# Altium schematic symbol library RP2040_WEDS-cache.SchLib: 59 symbols
Pins are listed as number, name and electrical type; pins without a type are passive.

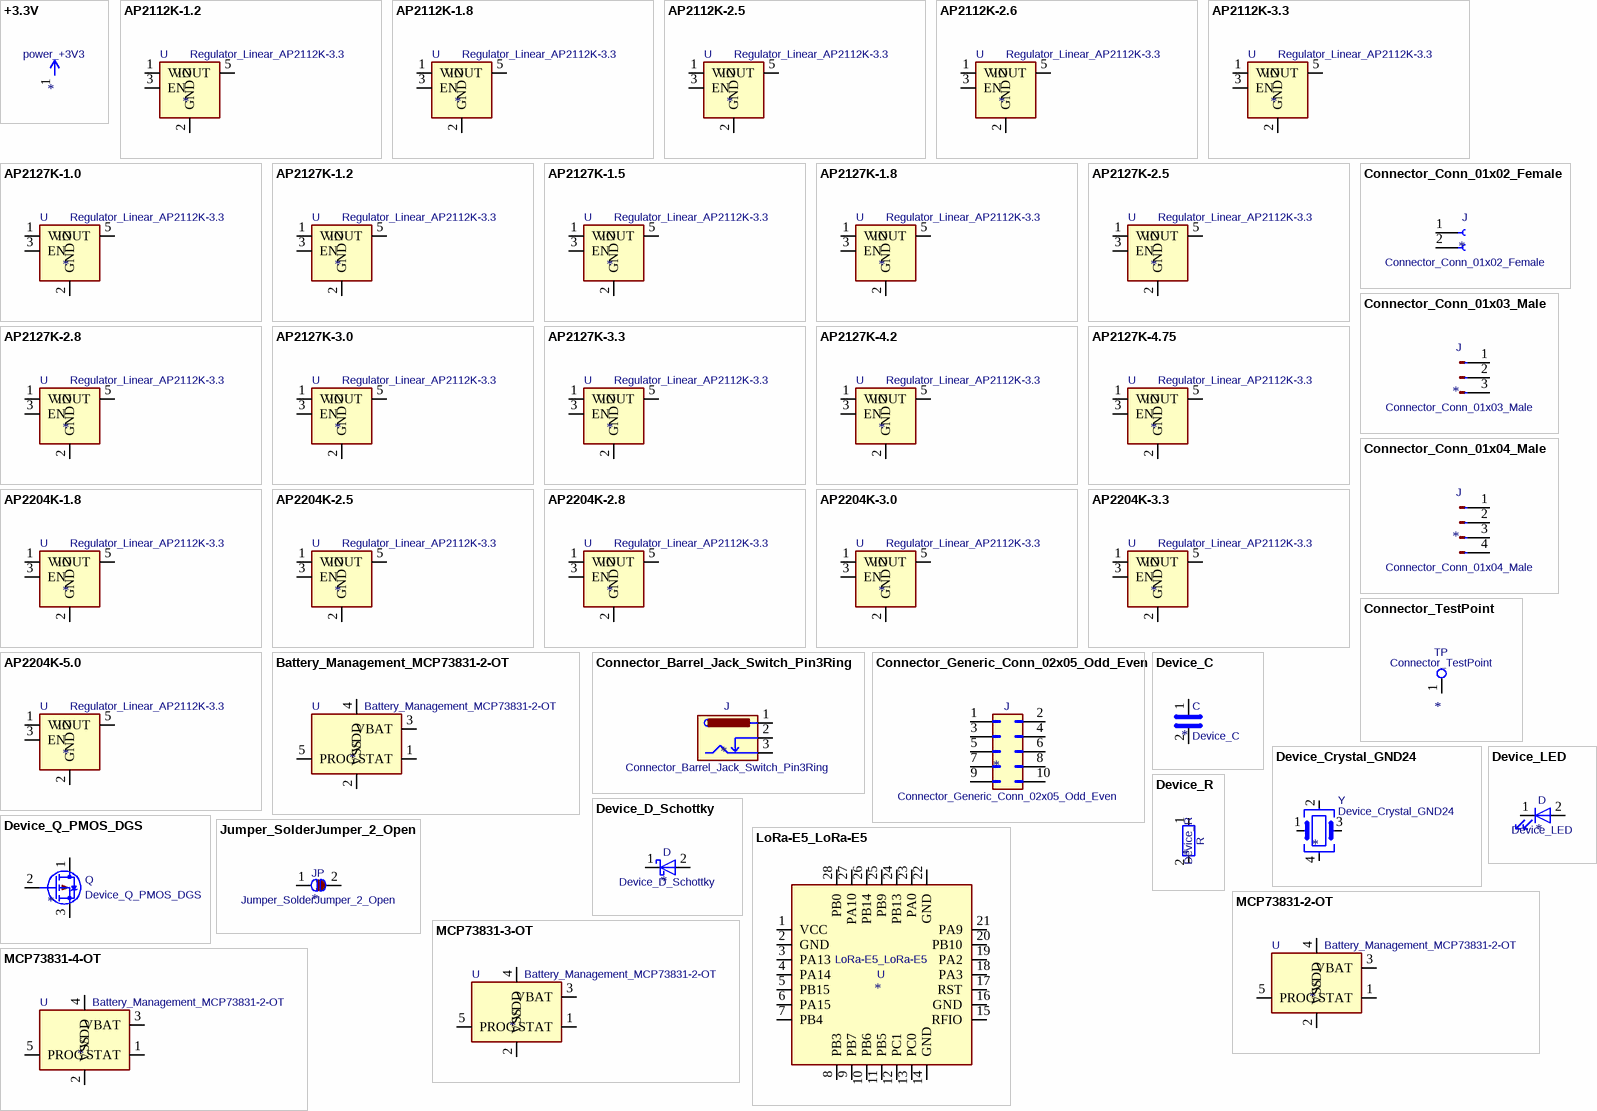
[diagram p0: symbols +3.3V to MCP73831-4-OT]

## +3.3V
designator #PWR  value power_+3V3
pins: 1 +3V3

## AP2112K-1.2
designator U  value Regulator_Linear_AP2112K-3.3
Footprint: Package_TO_SOT_SMD:SOT-23-5
footprint SOT-23-5
pins: 1 VIN, 2 GND, 3 EN, 4 NC hidden, 5 VOUT

## AP2112K-1.8
designator U  value Regulator_Linear_AP2112K-3.3
Footprint: Package_TO_SOT_SMD:SOT-23-5
footprint SOT-23-5
pins: 1 VIN, 2 GND, 3 EN, 4 NC hidden, 5 VOUT

## AP2112K-2.5
designator U  value Regulator_Linear_AP2112K-3.3
Footprint: Package_TO_SOT_SMD:SOT-23-5
footprint SOT-23-5
pins: 1 VIN, 2 GND, 3 EN, 4 NC hidden, 5 VOUT

## AP2112K-2.6
designator U  value Regulator_Linear_AP2112K-3.3
Footprint: Package_TO_SOT_SMD:SOT-23-5
footprint SOT-23-5
pins: 1 VIN, 2 GND, 3 EN, 4 NC hidden, 5 VOUT

## AP2112K-3.3
designator U  value Regulator_Linear_AP2112K-3.3
Footprint: Package_TO_SOT_SMD:SOT-23-5
footprint SOT-23-5
pins: 1 VIN, 2 GND, 3 EN, 4 NC hidden, 5 VOUT

## AP2127K-1.0
designator U  value Regulator_Linear_AP2112K-3.3
Footprint: Package_TO_SOT_SMD:SOT-23-5
footprint SOT-23-5
pins: 1 VIN, 2 GND, 3 EN, 4 NC hidden, 5 VOUT

## AP2127K-1.2
designator U  value Regulator_Linear_AP2112K-3.3
Footprint: Package_TO_SOT_SMD:SOT-23-5
footprint SOT-23-5
pins: 1 VIN, 2 GND, 3 EN, 4 NC hidden, 5 VOUT

## AP2127K-1.5
designator U  value Regulator_Linear_AP2112K-3.3
Footprint: Package_TO_SOT_SMD:SOT-23-5
footprint SOT-23-5
pins: 1 VIN, 2 GND, 3 EN, 4 NC hidden, 5 VOUT

## AP2127K-1.8
designator U  value Regulator_Linear_AP2112K-3.3
Footprint: Package_TO_SOT_SMD:SOT-23-5
footprint SOT-23-5
pins: 1 VIN, 2 GND, 3 EN, 4 NC hidden, 5 VOUT

## AP2127K-2.5
designator U  value Regulator_Linear_AP2112K-3.3
Footprint: Package_TO_SOT_SMD:SOT-23-5
footprint SOT-23-5
pins: 1 VIN, 2 GND, 3 EN, 4 NC hidden, 5 VOUT

## AP2127K-2.8
designator U  value Regulator_Linear_AP2112K-3.3
Footprint: Package_TO_SOT_SMD:SOT-23-5
footprint SOT-23-5
pins: 1 VIN, 2 GND, 3 EN, 4 NC hidden, 5 VOUT

## AP2127K-3.0
designator U  value Regulator_Linear_AP2112K-3.3
Footprint: Package_TO_SOT_SMD:SOT-23-5
footprint SOT-23-5
pins: 1 VIN, 2 GND, 3 EN, 4 NC hidden, 5 VOUT

## AP2127K-3.3
designator U  value Regulator_Linear_AP2112K-3.3
Footprint: Package_TO_SOT_SMD:SOT-23-5
footprint SOT-23-5
pins: 1 VIN, 2 GND, 3 EN, 4 NC hidden, 5 VOUT

## AP2127K-4.2
designator U  value Regulator_Linear_AP2112K-3.3
Footprint: Package_TO_SOT_SMD:SOT-23-5
footprint SOT-23-5
pins: 1 VIN, 2 GND, 3 EN, 4 NC hidden, 5 VOUT

## AP2127K-4.75
designator U  value Regulator_Linear_AP2112K-3.3
Footprint: Package_TO_SOT_SMD:SOT-23-5
footprint SOT-23-5
pins: 1 VIN, 2 GND, 3 EN, 4 NC hidden, 5 VOUT

## AP2204K-1.8
designator U  value Regulator_Linear_AP2112K-3.3
Footprint: Package_TO_SOT_SMD:SOT-23-5
footprint SOT-23-5
pins: 1 VIN, 2 GND, 3 EN, 4 NC hidden, 5 VOUT

## AP2204K-2.5
designator U  value Regulator_Linear_AP2112K-3.3
Footprint: Package_TO_SOT_SMD:SOT-23-5
footprint SOT-23-5
pins: 1 VIN, 2 GND, 3 EN, 4 NC hidden, 5 VOUT

## AP2204K-2.8
designator U  value Regulator_Linear_AP2112K-3.3
Footprint: Package_TO_SOT_SMD:SOT-23-5
footprint SOT-23-5
pins: 1 VIN, 2 GND, 3 EN, 4 NC hidden, 5 VOUT

## AP2204K-3.0
designator U  value Regulator_Linear_AP2112K-3.3
Footprint: Package_TO_SOT_SMD:SOT-23-5
footprint SOT-23-5
pins: 1 VIN, 2 GND, 3 EN, 4 NC hidden, 5 VOUT

## AP2204K-3.3
designator U  value Regulator_Linear_AP2112K-3.3
Footprint: Package_TO_SOT_SMD:SOT-23-5
footprint SOT-23-5
pins: 1 VIN, 2 GND, 3 EN, 4 NC hidden, 5 VOUT

## AP2204K-5.0
designator U  value Regulator_Linear_AP2112K-3.3
Footprint: Package_TO_SOT_SMD:SOT-23-5
footprint SOT-23-5
pins: 1 VIN, 2 GND, 3 EN, 4 NC hidden, 5 VOUT

## Battery_Management_MCP73831-2-OT
designator U  value Battery_Management_MCP73831-2-OT
Footprint: Package_TO_SOT_SMD:SOT-23-5
footprint SOT-23-5
pins: 1 STAT, 2 VSS, 3 VBAT, 4 VDD, 5 PROG

## Connector_Barrel_Jack_Switch_Pin3Ring
designator J  value Connector_Barrel_Jack_Switch_Pin3Ring
pins: 1, 2, 3

## Connector_Conn_01x02_Female
designator J  value Connector_Conn_01x02_Female
pins: 1 Pin_1, 2 Pin_2

## Connector_Conn_01x03_Male
designator J  value Connector_Conn_01x03_Male
pins: 1 Pin_1, 2 Pin_2, 3 Pin_3

## Connector_Conn_01x04_Male
designator J  value Connector_Conn_01x04_Male
pins: 1 Pin_1, 2 Pin_2, 3 Pin_3, 4 Pin_4

## Connector_Generic_Conn_02x05_Odd_Even
designator J  value Connector_Generic_Conn_02x05_Odd_Even
pins: 1 Pin_1, 2 Pin_2, 3 Pin_3, 4 Pin_4, 5 Pin_5, 6 Pin_6, 7 Pin_7, 8 Pin_8, 9 Pin_9, 10 Pin_10

## Connector_TestPoint
designator TP  value Connector_TestPoint
pins: 1

## Device_C
designator C  value Device_C
pins: 1, 2

## Device_Crystal_GND24
designator Y  value Device_Crystal_GND24
pins: 1, 2, 3, 4

## Device_D_Schottky
designator D  value Device_D_Schottky
pins: 1 K, 2 A

## Device_LED
designator D  value Device_LED
pins: 1 K, 2 A

## Device_Q_PMOS_DGS
designator Q  value Device_Q_PMOS_DGS
pins: 1 D, 2 G, 3 S

## Device_R
designator R  value Device_R
pins: 1, 2

## Jumper_SolderJumper_2_Open
designator JP  value Jumper_SolderJumper_2_Open
pins: 1 A, 2 B

## LoRa-E5_LoRa-E5
designator U  value LoRa-E5_LoRa-E5
pins: 1 VCC, 2 GND, 3 PA13, 4 PA14, 5 PB15, 6 PA15, 7 PB4, 8 PB3, 9 PB7, 10 PB6, 11 PB5, 12 PC1, 13 PC0, 14 GND, 15 RFIO, 16 GND, 17 RST, 18 PA3, 19 PA2, 20 PB10, 21 PA9, 22 GND, 23 PA0, 24 PB13, 25 PB9, 26 PB14, 27 PA10, 28 PB0

## MCP73831-2-OT
designator U  value Battery_Management_MCP73831-2-OT
Footprint: Package_TO_SOT_SMD:SOT-23-5
footprint SOT-23-5
pins: 1 STAT, 2 VSS, 3 VBAT, 4 VDD, 5 PROG

## MCP73831-3-OT
designator U  value Battery_Management_MCP73831-2-OT
Footprint: Package_TO_SOT_SMD:SOT-23-5
footprint SOT-23-5
pins: 1 STAT, 2 VSS, 3 VBAT, 4 VDD, 5 PROG

## MCP73831-4-OT
designator U  value Battery_Management_MCP73831-2-OT
Footprint: Package_TO_SOT_SMD:SOT-23-5
footprint SOT-23-5
pins: 1 STAT, 2 VSS, 3 VBAT, 4 VDD, 5 PROG

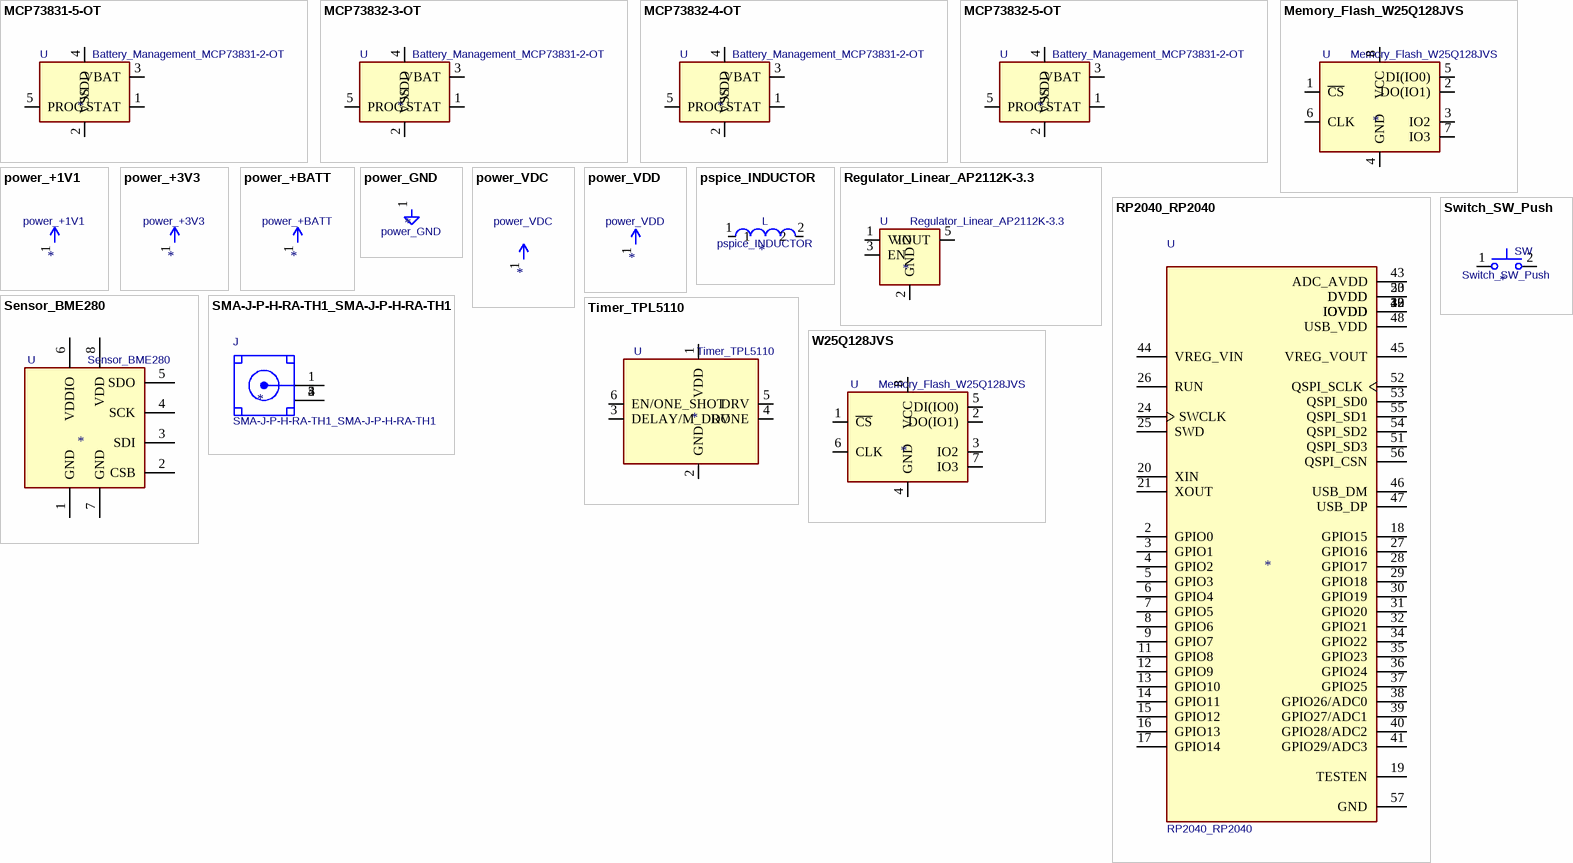
[diagram p1: symbols MCP73831-5-OT to W25Q128JVS]

## MCP73831-5-OT
designator U  value Battery_Management_MCP73831-2-OT
Footprint: Package_TO_SOT_SMD:SOT-23-5
footprint SOT-23-5
pins: 1 STAT, 2 VSS, 3 VBAT, 4 VDD, 5 PROG

## MCP73832-3-OT
designator U  value Battery_Management_MCP73831-2-OT
Footprint: Package_TO_SOT_SMD:SOT-23-5
footprint SOT-23-5
pins: 1 STAT, 2 VSS, 3 VBAT, 4 VDD, 5 PROG

## MCP73832-4-OT
designator U  value Battery_Management_MCP73831-2-OT
Footprint: Package_TO_SOT_SMD:SOT-23-5
footprint SOT-23-5
pins: 1 STAT, 2 VSS, 3 VBAT, 4 VDD, 5 PROG

## MCP73832-5-OT
designator U  value Battery_Management_MCP73831-2-OT
Footprint: Package_TO_SOT_SMD:SOT-23-5
footprint SOT-23-5
pins: 1 STAT, 2 VSS, 3 VBAT, 4 VDD, 5 PROG

## Memory_Flash_W25Q128JVS
designator U  value Memory_Flash_W25Q128JVS
Footprint: Package_SO:SOIC-8_5.23x5.23mm_P1.27mm
footprint SOIC-8_5.23x5.23mm_P1.27mm
pins: 1 ~{CS}, 2 DO(IO1), 3 IO2, 4 GND, 5 DI(IO0), 6 CLK, 7 IO3, 8 VCC

## power_+1V1
designator #PWR  value power_+1V1
pins: 1 +1V1

## power_+3V3
designator #PWR  value power_+3V3
pins: 1 +3V3

## power_+BATT
designator #PWR  value power_+BATT
pins: 1 +BATT

## power_GND
designator #PWR  value power_GND
pins: 1 GND

## power_VDC
designator #PWR  value power_VDC
pins: 1 VDC

## power_VDD
designator #PWR  value power_VDD
pins: 1 VDD

## pspice_INDUCTOR
designator L  value pspice_INDUCTOR
pins: 1, 2

## Regulator_Linear_AP2112K-3.3
designator U  value Regulator_Linear_AP2112K-3.3
Footprint: Package_TO_SOT_SMD:SOT-23-5
footprint SOT-23-5
pins: 1 VIN, 2 GND, 3 EN, 4 NC hidden, 5 VOUT

## RP2040_RP2040
designator U  value RP2040_RP2040
MANUFACTURER: Raspberry Pi; Footprint: QFN40P700X700X90-57N; PARTREV: 1.6.1; MAXIMUM_PACKAGE_HEIGHT: 0.9 mm; STANDARD: IPC 7351B
footprint QFN40P700X700X90-57N
pins: 1 IOVDD, 2 GPIO0, 3 GPIO1, 4 GPIO2, 5 GPIO3, 6 GPIO4, 7 GPIO5, 8 GPIO6, 9 GPIO7, 10 IOVDD, 11 GPIO8, 12 GPIO9, 13 GPIO10, 14 GPIO11, 15 GPIO12, 16 GPIO13, 17 GPIO14, 18 GPIO15, 19 TESTEN, 20 XIN, 21 XOUT, 22 IOVDD, 23 DVDD, 24 SWCLK, 25 SWD, 26 RUN, 27 GPIO16, 28 GPIO17, 29 GPIO18, 30 GPIO19, 31 GPIO20, 32 GPIO21, 33 IOVDD, 34 GPIO22, 35 GPIO23, 36 GPIO24, 37 GPIO25, 38 GPIO26/ADC0, 39 GPIO27/ADC1, 40 GPIO28/ADC2, 41 GPIO29/ADC3, 42 IOVDD, 43 ADC_AVDD, 44 VREG_VIN, 45 VREG_VOUT, 46 USB_DM, 47 USB_DP, 48 USB_VDD, 49 IOVDD, 50 DVDD, 51 QSPI_SD3, 52 QSPI_SCLK, 53 QSPI_SD0, 54 QSPI_SD2, 55 QSPI_SD1, 56 QSPI_CSN, 57 GND

## Sensor_BME280
designator U  value Sensor_BME280
Footprint: Package_LGA:Bosch_LGA-8_2.5x2.5mm_P0.65mm_ClockwisePinNumbering
footprint Bosch_LGA-8_2.5x2.5mm_P0.65mm_ClockwisePinNumbering
pins: 1 GND, 2 CSB, 3 SDI, 4 SCK, 5 SDO, 6 VDDIO, 7 GND, 8 VDD

## SMA-J-P-H-RA-TH1_SMA-J-P-H-RA-TH1
designator J  value SMA-J-P-H-RA-TH1_SMA-J-P-H-RA-TH1
MANUFACTURER: Samtec; Footprint: SAMTEC_SMA-J-P-H-RA-TH1; STANDARD: Manufacturer recommendations; PARTREV: K
footprint SAMTEC_SMA-J-P-H-RA-TH1
pins: 1, 2, 3, 4, 5

## Switch_SW_Push
designator SW  value Switch_SW_Push
pins: 1, 2

## Timer_TPL5110
designator U  value Timer_TPL5110
Footprint: Package_TO_SOT_SMD:SOT-23-6
footprint SOT-23-6
pins: 1 VDD, 2 GND, 3 DELAY/M_DRV, 4 DONE, 5 DRV, 6 EN/ONE_SHOT

## W25Q128JVS
designator U  value Memory_Flash_W25Q128JVS
Footprint: Package_SO:SOIC-8_5.23x5.23mm_P1.27mm
footprint SOIC-8_5.23x5.23mm_P1.27mm
pins: 1 ~{CS}, 2 DO(IO1), 3 IO2, 4 GND, 5 DI(IO0), 6 CLK, 7 IO3, 8 VCC